# Altium integrated library Driver_Motor.IntLib: 1 symbol
Pins are listed as number, name and electrical type; pins without a type are passive.

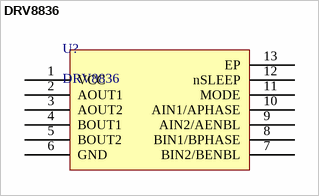
[diagram p0: symbol DRV8836]

## DRV8836
designator U?
Dual H-Bridge motor driver
footprint SON-12-1EP_3x2mm_P0.5mm_EP2x0.88mm_ThermalVias (SON, 12-Leads, Body 3.00x2.00mm, Pitch 0.50mm, Thermal Pad 2.00x0.88mm, IPC Medium Density)
pins: 1 VCC, 2 AOUT1, 3 AOUT2, 4 BOUT1, 5 BOUT2, 6 GND, 7 BIN2/BENBL, 8 BIN1/BPHASE, 9 AIN2/AENBL, 10 AIN1/APHASE, 11 MODE, 12 nSLEEP, 13 EP